# Altium footprint library thermistors.PcbLib: 2 footprints
Each footprint in its own frame and in the unit in brackets; x right, y up, seen from the top. Pads: shape width x height; smd on the part's side, far side on the other; paste and mask are expansions set on the pad; w line width, h text height; cw(c..) or ccw(c..) is an arc to the next point about the centre after c.
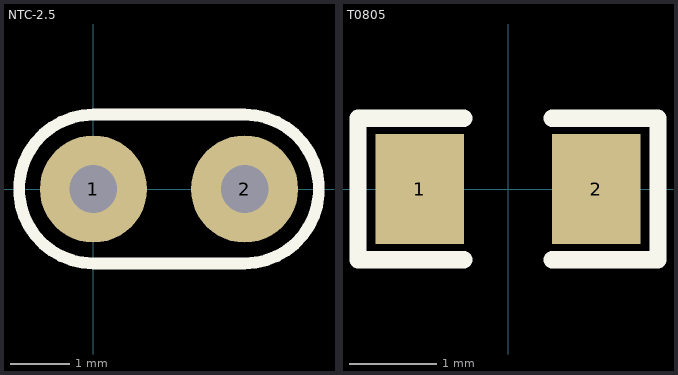
[diagram p0: the footprints below, top view; thin cyan lines are the x and y axes]

## NTC-2.5 [mm] "NTC"
height 10
pads (2):
  round 1.8 hole 0.8: 1(0,0) 2(2.54,0)
Top Overlay:
  lines w0.2: 0,-1.25 cw(c0,0) 0,1.25 2.54,1.25 cw(c2.54,0) 2.54,-1.25 0,-1.25
3D body "2381_640_56103_ntcle203e3103hb0.stp": height 8.4, standoff -2.1, extent -0.431,-1.5 2.969,1.5

## T0805 [mil]
height 49.21
pads (2):
  rect 40x50 smd: 1(-40,0) 2(40,0)
Top Overlay:
  lines w7.87: -20,-32 -68,-32 -68,32 -20,32 ; 20,-32 68,-32 68,32 20,32
3D body "User Library-Chip Inductor.step": height 38, standoff 0.6, extent -39.36,-23.62 39.38,23.63